# Altium footprint library FTSH-105-01-XXX-D-K.PcbLib: 1 footprints
Each footprint in its own frame and in the unit in brackets; x right, y up, seen from the top. Pads: shape width x height; smd on the part's side, far side on the other; paste and mask are expansions set on the pad; w line width, h text height; cw(c..) or ccw(c..) is an arc to the next point about the centre after c.
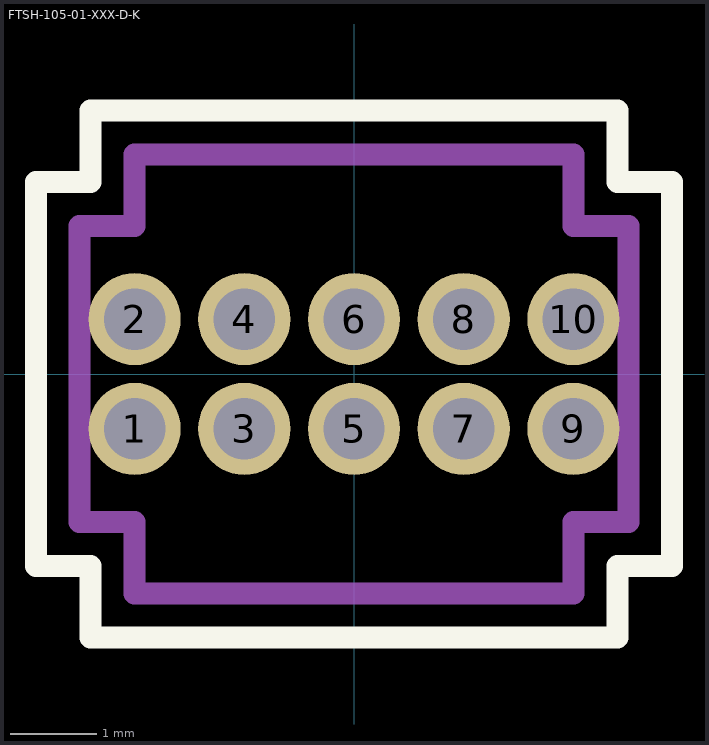
[diagram p0: the footprint, top view; thin cyan lines are the x and y axes]

## FTSH-105-01-XXX-D-K [mil]
pads (10):
  round 42 hole 28 mask+3: 1(-100,-25) 2(-100,25) 3(-50,-25) 4(-50,25) 5(0,-25) 6(0,25) 7(50,-25) 8(50,25) 9(100,-25) 10(100,25)
Top Overlay:
  lines w10: -145,-87.5 -145,87.5 -120,87.5 -120,120 120,120 120,87.5 145,87.5 145,-87.5 120,-87.5 120,-120 -120,-120 -120,-87.5 -145,-87.5
Mechanical 1:
  lines w10: -125,-67.5 -125,67.5 -100,67.5 -100,100 100,100 100,67.5 125,67.5 125,-67.5 100,-67.5 100,-100 -100,-100 -100,-67.5 -125,-67.5
  text "J1" at -170,-135 h30